# EAGLE library part H15MLE (library 1A-meinLib)
CONNECTOR male, 15 high current pins, single, type H, rows DZ
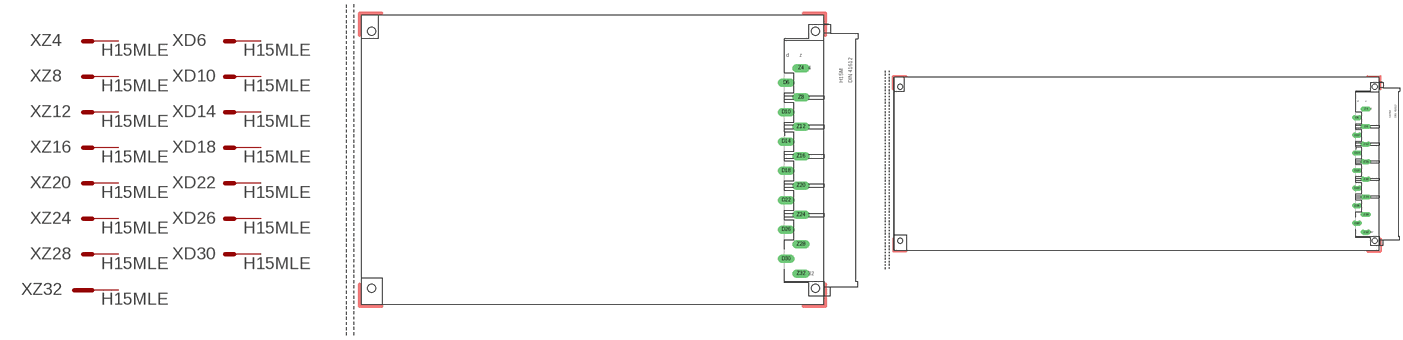
[diagram p175: symbol with the pads of H15ML; footprints H15ML, H15ML_X280]

Designator prefix X; gates Z4=M-3 Z8=M-3 Z12=M-3 Z16=M-3 Z20=M-3 Z24=M-3 Z28=M-3 D30=M-3 D6=M-3 D10=M-3 D14=M-3 D18=M-3 D22=M-3 D26=M-3 Z32=MG

## H15MLE  [H15ML]
D6  D6:S  pas
D10  D10:S  pas
D14  D14:S  pas
D18  D18:S  pas
D22  D22:S  pas
D26  D26:S  pas
D30  D30:S  pas
Z4  Z4:S  pas
Z8  Z8:S  pas
Z12  Z12:S  pas
Z16  Z16:S  pas
Z20  Z20:S  pas
Z24  Z24:S  pas
Z28  Z28:S  pas
Z32  Z32:S  pas

## H15MLE280MM  [H15ML_X280]
Pads as for H15ML

## H15MLE220MM  [H15ML_X220]
Pads as for H15ML

## Footprint H15ML (pad centres in mm)
CONNECTOR male, 15 pins, type H, rows DZ
drill 1.6 pad 3 long: D6 -10.16,26.67; D10 -10.16,16.51; D14 -10.16,6.35; D18 -10.16,-3.81; D22 -10.16,-13.97; D26 -10.16,-24.13; D30 -10.16,-34.29; Z4 -5.08,31.75; Z8 -5.08,21.59; Z12 -5.08,11.43; Z16 -5.08,1.27; Z20 -5.08,-8.89; Z24 -5.08,-19.05; Z28 -5.08,-29.21; Z32 -5.08,-39.37
hole 2.794 at 0,-44.45
hole 2.794 at 0,44.45
hole 2.794 at 0,44.45
hole 2.794 at 0,-44.45
hole 2.794 at -153.67,-44.45
hole 2.794 at -153.67,44.45
hole 2.8 at 0,44.45
hole 2.8 at 0,-44.45

## Footprint H15ML_X280 (pad centres in mm)
drill 1.6 pad 3 long: D6 -10.16,71.12; D10 -10.16,60.96; D14 -10.16,50.8; D18 -10.16,40.64; D22 -10.16,30.48; D26 -10.16,20.32; D30 -10.16,10.16; Z4 -5.08,76.2; Z8 -5.08,66.04; Z12 -5.08,55.88; Z16 -5.08,45.72; Z20 -5.08,35.56; Z24 -5.08,25.4; Z28 -5.08,15.24; Z32 -5.08,5.08
hole 2.794 at 0,0
hole 2.794 at 0,88.9
hole 2.794 at 0,88.9
hole 2.794 at 0,0
hole 2.794 at -273.87,0
hole 2.794 at -273.87,88.9
hole 2.8 at 0,88.9
hole 2.8 at 0,0

## Footprint H15ML_X220 (pad centres in mm)
drill 1.6 pad 3 long: D6 -10.16,71.12; D10 -10.16,60.96; D14 -10.16,50.8; D18 -10.16,40.64; D22 -10.16,30.48; D26 -10.16,20.32; D30 -10.16,10.16; Z4 -5.08,76.2; Z8 -5.08,66.04; Z12 -5.08,55.88; Z16 -5.08,45.72; Z20 -5.08,35.56; Z24 -5.08,25.4; Z28 -5.08,15.24; Z32 -5.08,5.08
hole 2.794 at 0,0
hole 2.794 at 0,88.9
hole 2.794 at 0,88.9
hole 2.794 at 0,0
hole 2.794 at -213.36,0
hole 2.794 at -213.36,88.9